# Altium schematic symbol library 2020-03-05_17-49-49.SchLib: 1 symbol
Pins are listed as number, name and electrical type; pins without a type are passive.

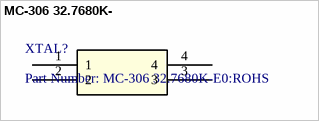
[diagram p0: symbol MC-306 32.7680K-]

## MC-306 32.7680K-
designator XTAL?, comment Part Number: MC-306 32.7680K-E0:ROHS
Crystal / Oscillator 32.768KHz for low power consumption; Built_By: EMA_Matt; Vendor: Epson; Manufacturer_Part_Number: MC-306 32.7680K-E0:ROHS; Copyright: Copyright (C) 2018 Accelerated Designs. All rights reserved; RefDes: RefDes; Type: DEV; Value: Value
footprint XTAL_0:ROHS
pins: 1, 2, 3, 4